# Altium footprint library Eswitch320.01 E1-1.PcbLib: 1 footprints
Each footprint in its own frame and in the unit in brackets; x right, y up, seen from the top. Pads: shape width x height; smd on the part's side, far side on the other; paste and mask are expansions set on the pad; w line width, h text height; cw(c..) or ccw(c..) is an arc to the next point about the centre after c.
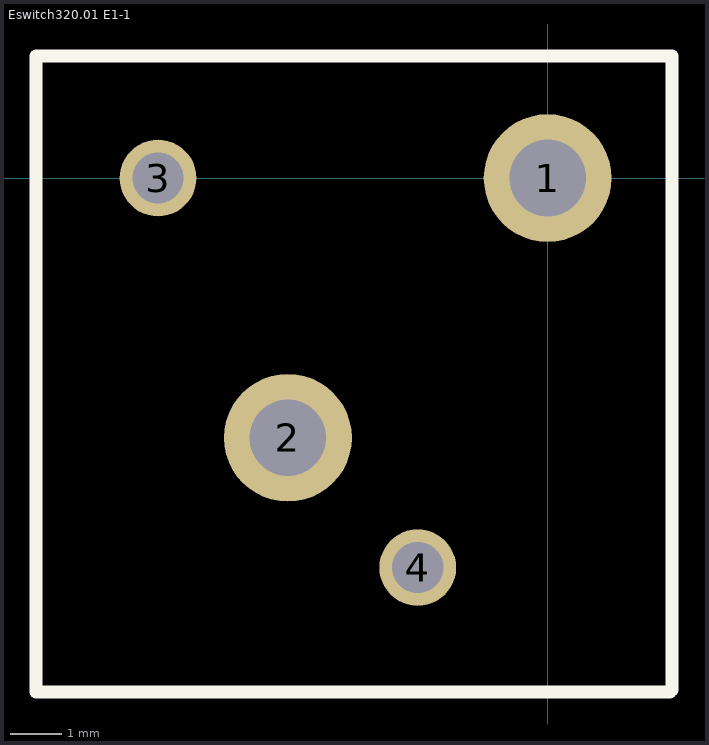
[diagram p0: the footprint, top view; thin cyan lines are the x and y axes]

## Eswitch320.01 E1-1 [mm] "Pushbuttons for Sexboard"
height 10.25
pads (4):
  round 2.5 hole 1.5: 1(0,0) 2(-5.08,-5.08)
  round 1.5 hole 1: 3(-7.62,0) 4(-2.54,-7.62)
Top Overlay:
  lines w0.254: -10.01,-10.056 2.39,-10.056 ; -10.01,-10.01 -10.01,2.39 2.39,2.39 ; 2.436,-10.01 2.436,2.39
3D body: height 10.25, standoff 0, extent -10.137,-10.183 2.563,2.517